# Altium schematic symbol library MOD-WS2812B-STRIP.SchLib: 1 symbol
Pins are listed as number, name and electrical type; pins without a type are passive.

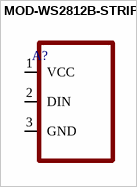
[diagram p0: symbol MOD-WS2812B-STRIP]

## MOD-WS2812B-STRIP
designator A?
pins: 1 VCC, 2 DIN, 3 GND